# Altium schematic symbol library CarScanner.SchLib: 1 symbol
Pins are listed as number, name and electrical type; pins without a type are passive.

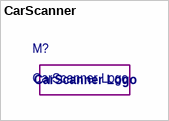
[diagram p0: symbol CarScanner]

## CarScanner
designator M?, comment CarScanner Logo  (no BOM)